# Altium footprint library pcb_aQFN73_nRF52840_7x7mm.PcbLib: 1 footprints
Each footprint in its own frame and in the unit in brackets; x right, y up, seen from the top. Pads: shape width x height; smd on the part's side, far side on the other; paste and mask are expansions set on the pad; w line width, h text height; cw(c..) or ccw(c..) is an arc to the next point about the centre after c.
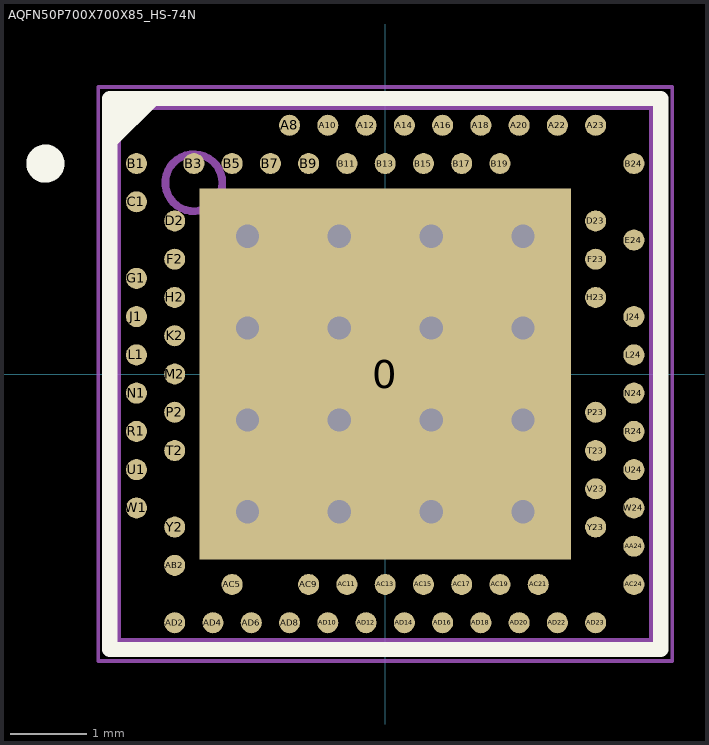
[diagram p0: the footprint, top view; thin cyan lines are the x and y axes]

## AQFN50P700X700X85_HS-74N [mm]
pads (74):
  rect 4.85x4.85 smd mask+0.05: 0(0,0)
  round 0.275 smd paste+0.012 mask+0.05: A8(-1.25,3.25) A10(-0.75,3.25) A12(-0.25,3.25) A14(0.25,3.25) A16(0.75,3.25) A18(1.25,3.25) A20(1.75,3.25) A22(2.25,3.25) A23(2.75,3.25) AA24(3.25,-2.25) AB2(-2.75,-2.5) AC5(-2,-2.75) AC9(-1,-2.75) AC11(-0.5,-2.75) AC13(0,-2.75) AC15(0.5,-2.75) AC17(1,-2.75) AC19(1.5,-2.75) AC21(2,-2.75) AC24(3.25,-2.75) AD2(-2.75,-3.25) AD4(-2.25,-3.25) AD6(-1.75,-3.25) AD8(-1.25,-3.25) AD10(-0.75,-3.25) AD12(-0.25,-3.25) AD14(0.25,-3.25) AD16(0.75,-3.25) AD18(1.25,-3.25) AD20(1.75,-3.25) AD22(2.25,-3.25) AD23(2.75,-3.25) B1(-3.25,2.75) B3(-2.5,2.75) B5(-2,2.75) B7(-1.5,2.75) B9(-1,2.75) B11(-0.5,2.75) B13(0,2.75) B15(0.5,2.75) B17(1,2.75) B19(1.5,2.75) B24(3.25,2.75) C1(-3.25,2.25) D2(-2.75,2) D23(2.75,2) E24(3.25,1.75) F2(-2.75,1.5) F23(2.75,1.5) G1(-3.25,1.25) H2(-2.75,1) H23(2.75,1) J1(-3.25,0.75) J24(3.25,0.75) K2(-2.75,0.5) L1(-3.25,0.25) L24(3.25,0.25) M2(-2.75,0) N1(-3.25,-0.25) N24(3.25,-0.25) P2(-2.75,-0.5) P23(2.75,-0.5) R1(-3.25,-0.75) R24(3.25,-0.75) T2(-2.75,-1) T23(2.75,-1) U1(-3.25,-1.25) U24(3.25,-1.25) V23(2.75,-1.5) W1(-3.25,-1.75) W24(3.25,-1.75) Y2(-2.75,-2) Y23(2.75,-2)
via -1.8,1.8 diameter 0.61 hole 0.305
via -0.6,1.8 diameter 0.61 hole 0.305
via 0.6,1.8 diameter 0.61 hole 0.305
via 1.8,1.8 diameter 0.61 hole 0.305
via -1.8,0.6 diameter 0.61 hole 0.305
via -0.6,0.6 diameter 0.61 hole 0.305
via 0.6,0.6 diameter 0.61 hole 0.305
via 1.8,0.6 diameter 0.61 hole 0.305
via -1.8,-0.6 diameter 0.61 hole 0.305
via -0.6,-0.6 diameter 0.61 hole 0.305
via 0.6,-0.6 diameter 0.61 hole 0.305
via 1.8,-0.6 diameter 0.61 hole 0.305
via -1.8,-1.8 diameter 0.61 hole 0.305
via -0.6,-1.8 diameter 0.61 hole 0.305
via 0.6,-1.8 diameter 0.61 hole 0.305
via 1.8,-1.8 diameter 0.61 hole 0.305
Top Overlay:
  circle w0.25: c-4.44,2.75 r0.125
  region: -3,3.5 -3.5,3 -3.5,3.5
  lines w0.2: -3.6,-3.6 -3.6,3.6 3.6,3.6 3.6,-3.6 -3.6,-3.6
Top Assembly:
  circle w0.1: c-2.5,2.5 r0.373
  lines w0.1: -3.5,-3.5 3.5,-3.5 3.5,3.5 -3.5,3.5 -3.5,-3.5
  text "'.Designator'" at 0,0 h2
Top Courtyard:
  lines w0.05: -3.75,-3.75 -3.75,3.75 3.75,3.75 3.75,-3.75 -3.75,-3.75
  lines w0.1: -0.5,0 0.5,0 ; 0,-0.5 0,0.5
3D body "LGA88C25P25X25_700X700X85.step": height 0.85, standoff 0, extent -3.55,-3.55 3.55,3.55